# Altium footprint library GPS_LIB_PCB.PcbLib: 19 footprints (part 1 of 2)
Each footprint in its own frame and in the unit in brackets; x right, y up, seen from the top. Pads: shape width x height; smd on the part's side, far side on the other; paste and mask are expansions set on the pad; w line width, h text height; cw(c..) or ccw(c..) is an arc to the next point about the centre after c.
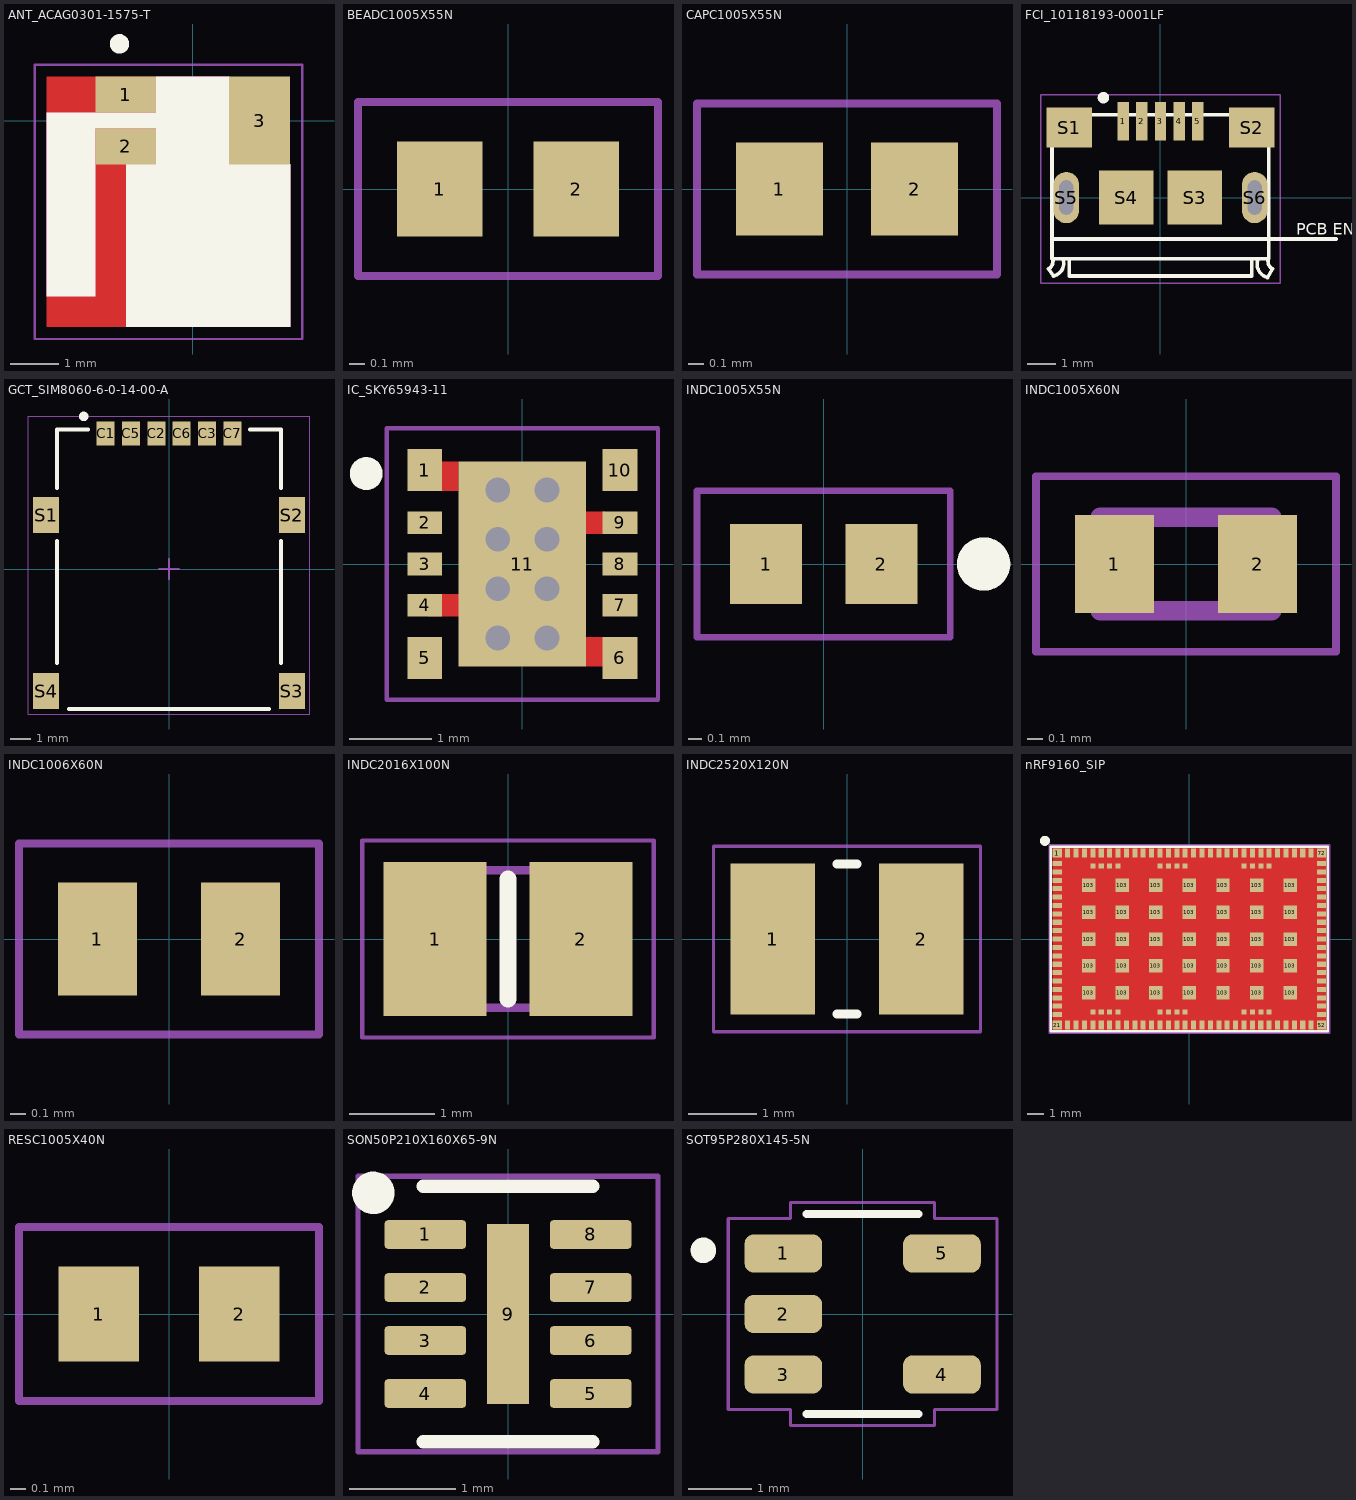
[diagram p0: the footprints below, top view; thin cyan lines are the x and y axes]

## ANT_ACAG0301-1575-T [mm]
pads (3):
  rect 1.25x0.74 smd: 1(-1.375,0.53) 2(-1.375,-0.53)
  rect 1.25x1.8 smd: 3(1.375,0)
Top Layer:
  region: -0.75,-0.9 -1.37,-0.9 -1.37,-4.24 -3,-4.24 -3,-3.61 -2,-3.61 -2,-0.16 -0.75,-0.16
  region: -0.75,0.16 -3,0.16 -3,0.9 -0.75,0.9
  pour cut-out: -3,-3.61 -2,-3.61 -2,-0.16 -0.75,-0.16 -0.75,-0.9 -1.37,-0.9 -1.37,-4.24 2,-4.24 2,-0.9 0.75,-0.9 0.75,0.9 -0.75,0.9 -0.75,0.16 -3,0.16
Bottom Layer:
  pour cut-out: -3,-3.61 -2,-3.61 -2,-0.16 -0.75,-0.16 -0.75,-0.9 -1.37,-0.9 -1.37,-4.24 2,-4.24 2,-0.9 0.75,-0.9 0.75,0.9 -0.75,0.9 -0.75,0.16 -3,0.16
Top Overlay:
  circle w0.2: c-1.505,1.575 r0.1
Top Overlay keep-out:
  region: 0.75,-0.9 2,-0.9 2,-4.24 -1.37,-4.24 -1.37,-0.9 -0.75,-0.9 -0.75,-0.16 -2,-0.16 -2,-3.61 -3,-3.61 -3,0.16 -0.75,0.16 -0.75,0.9 0.75,0.9
Mechanical 15:
  lines w0.05: -3.25,-4.49 2.25,-4.49 2.25,1.15 -3.25,1.15 -3.25,-4.49
3D body: height 0.6, standoff 0, extent -1.6,-0.8 1.6,0.8

## Battery 500maH [mm]
3D body: height 6.53, standoff 0, extent -17.6,-19.7 16.9,18.3

## BEADC1005X55N [mm]
pads (2):
  rect 0.54x0.6 smd: 1(-0.432,0) 2(0.432,0)
Mechanical 15:
  lines w0.05: -0.95,-0.55 0.95,-0.55 0.95,0.55 -0.95,0.55 -0.95,-0.55
3D body: height 0.55, standoff 0.05, extent -0.5,-0.28 0.5,0.27

## CAPC1005X55N [mm]
pads (2):
  rect 0.56x0.6 smd: 1(-0.435,0) 2(0.435,0)
Mechanical 15:
  lines w0.05: -0.965,-0.55 -0.965,0.55 0.965,0.55 0.965,-0.55 -0.965,-0.55
3D body: height 0.55, standoff 0.05, extent -0.5,-0.28 0.5,0.27

## FCI_10118193-0001LF [mm]
pads (11):
  rect 0.4x1.35 smd: 1(-1.3,2.675) 2(-0.65,2.675) 3(0,2.675) 4(0.65,2.675) 5(1.3,2.675)
  rect 1.6x1.4 smd: S1(-3.2,2.45) S2(3.2,2.45)
  rect 1.9x1.9 smd: S3(1.2,0) S4(-1.2,0)
  oval 0.9x1.8 hole 0.5 slot 1.2 at 90 deg: S5(-3.3,0) S6(3.3,0)
Top Overlay:
  circle w0.2: c-2,3.5 r0.1
  lines w0.127: -3.93,-2.5 -3.75,-2.75 ; -3.93,-2.5 ccw(c-4.065,-2.235) -3.8,-2.1 ; -3.8,-1.45 3.8,-1.45 ; -3.8,-1.4 -3.8,-1.1 ; -3.8,1.1 -3.8,1.5 ; -3.746,-2.749 ccw(c-3.85,-2.3) -3.401,-2.196 ; -3.2,-2.2 -3.2,-2.75 3.2,-2.75 3.2,-2.2 ; 3.401,-2.198 ccw(c3.875,-2.325) 3.748,-2.799 ; 3.75,-2.8 3.93,-2.5 ; 3.8,-2.1 ccw(c4.065,-2.235) 3.93,-2.5 ; 3.8,-1.4 3.8,-1.1 ; 3.8,1.1 3.8,1.5 ; 6.15,-1.45 3.8,-1.45 ; -3.8,-2.1 -3.8,-2.15 3.8,-2.15 3.8,-1.45 ; -3.8,-2.1 -3.8,2.9 3.8,2.9 3.8,-1.45
  text "PCB END" at 4.75,-1.3 h0.41
Mechanical 15:
  lines w0.05: -4.2,-3 -4.2,3.6 4.2,3.6 4.2,-3 -4.2,-3
3D body: height 3.18, standoff -0.43, extent -3.92,-2.703 3.937,2.957

## GCT_SIM8060-6-0-14-00-A [mm]
pads (10):
  rect 0.9x1.2 smd: C1(-3.175,6.8) C2(-0.635,6.8) C3(1.905,6.8) C5(-1.905,6.8) C6(0.635,6.8) C7(3.175,6.8)
  rect 1.3x1.8 smd: S1(-6.15,2.7) S2(6.15,2.7) S3(6.15,-6.1) S4(-6.15,-6.1)
Top Overlay:
  circle w0.24: c-4.267,7.645 r0.12
  lines w0.2: -5.6,-4.699 -5.6,1.397 ; -5.6,4.064 -5.6,7 -4.064,7 ; -5,-7 5,-7 ; 4.064,7 5.6,7 5.6,4.064 ; 5.6,-4.699 5.6,1.397
Mechanical 15:
  lines w0.05: -7.05,-7.25 7.05,-7.25 7.05,7.65 -7.05,7.65 -7.05,-7.25
  lines w0.1: -0.5,0 0.5,0 ; 0,-0.5 0,0.5
3D body: height 1.53, standoff 0.08, extent -6.2,-7 6.2,7

## IC_SKY65943-11 [mm]
pads (11):
  rect 0.425x0.515 smd mask+0: 1(-1.188,1.144) 5(-1.188,-1.144) 6(1.188,-1.144) 10(1.188,1.144)
  rect 0.425x0.275 smd mask+0: 2(-1.188,0.5) 3(-1.188,0) 4(-1.188,-0.5) 7(1.188,-0.5) 8(1.188,0) 9(1.188,0.5)
  rect 1.55x2.5 smd paste-2: 11(0,0)
via 0.3,0.3 diameter 0.61 hole 0.3
via -0.3,0.3 diameter 0.61 hole 0.3
via -0.3,0.9 diameter 0.61 hole 0.3
via 0.3,0.9 diameter 0.61 hole 0.3
via -0.3,-0.3 diameter 0.61 hole 0.3
via 0.3,-0.3 diameter 0.61 hole 0.3
via -0.3,-0.9 diameter 0.61 hole 0.3
via 0.3,-0.9 diameter 0.61 hole 0.3
Top Layer:
  rectangle: 0.7,0.362 1,0.638
  rectangle: -0.925,1.144 -0.775,1.25
  rectangle: -1.016,0.886 -0.775,1.144
  rectangle: -1.016,1.144 -0.925,1.25
  rectangle: 0.775,-1.25 1.188,-0.886
  rectangle: -1.143,-0.637 -0.762,-0.363
Top Overlay:
  circle w0.2: c-1.9,1.1 r0.1
Top Paste:
  region: 0.775,-1.25 -0.775,-1.25 -0.775,-0.505 0.775,-0.505
  region: 0.775,0.505 -0.775,0.505 -0.775,1.25 0.775,1.25
  region: 0.775,-0.335 -0.775,-0.335 -0.775,0.335 0.775,0.335
Top Solder:
  region: 1.45,-0.687 0.925,-0.687 0.925,-0.312 1.45,-0.312
  region: 1.45,0.312 0.925,0.312 0.925,0.687 1.45,0.687
  region: -0.925,-0.687 -1.45,-0.687 -1.45,-0.312 -0.925,-0.312
  region: -0.925,0.312 -1.45,0.312 -1.45,0.687 -0.925,0.687
  region: 1.45,-0.188 0.925,-0.188 0.925,0.188 1.45,0.188
  region: -0.925,-0.188 -1.45,-0.188 -1.45,0.188 -0.925,0.188
  region: 1.45,-1.451 0.925,-1.451 0.925,-0.836 1.45,-0.836
  region: 1.45,0.836 0.925,0.836 0.925,1.451 1.45,1.451
  region: -0.925,-1.451 -1.45,-1.451 -1.45,-0.836 -0.925,-0.836
  region: -0.925,0.836 -1.45,0.836 -1.45,1.451 -0.925,1.451
  region: 0.775,-1.25 -0.775,-1.25 -0.775,1.25 0.775,1.25
Mechanical 15:
  lines w0.05: -1.65,-1.651 -1.65,1.651 1.65,1.651 1.65,-1.651 -1.65,-1.651
3D body: height 0.7, standoff 0, extent -1.25,-1.25 1.25,1.25

## INDC1005X55N [mm]
pads (2):
  rect 0.54x0.6 smd: 1(-0.432,0) 2(0.432,0)
Top Overlay:
  circle w0.2: c1.2,0 r0.1
Mechanical 15:
  lines w0.05: -0.95,-0.55 -0.95,0.55 0.95,0.55 0.95,-0.55 -0.95,-0.55
3D body: height 0.65, standoff 0.1, extent -0.5,-0.25 0.5,0.25

## INDC1005X60N [mm]
pads (2):
  rect 0.51x0.63 smd: 1(-0.46,0) 2(0.46,0)
Mechanical 13:
  lines w0.127: -0.55,-0.3 0.55,-0.3 0.55,0.3 -0.55,0.3 -0.55,-0.3
Mechanical 15:
  lines w0.05: -0.965,-0.565 0.965,-0.565 0.965,0.565 -0.965,0.565 -0.965,-0.565
3D body: height 0.6, standoff 0, extent -0.5,-0.3 0.5,0.3

## INDC1006X60N [mm]
pads (2):
  rect 0.51x0.73 smd: 1(-0.46,0) 2(0.46,0)
Mechanical 15:
  lines w0.05: -0.965,-0.615 -0.965,0.615 0.965,0.615 0.965,-0.615 -0.965,-0.615
3D body: height 0.6, standoff 0, extent -0.5,-0.3 0.5,0.3

## INDC2016X100N [mm]
pads (2):
  rect 1.2x1.8 smd: 1(-0.85,0) 2(0.85,0)
Top Overlay:
  lines w0.2: 0,-0.7 0,0.7
Mechanical 13:
  lines w0.1: -1,-0.8 1,-0.8 1,0.8 -1,0.8 -1,-0.8
Mechanical 15:
  lines w0.05: -1.7,-1.15 1.7,-1.15 1.7,1.15 -1.7,1.15 -1.7,-1.15
3D body: height 1, standoff 0, extent -1,-0.8 1,0.8

## INDC2520X120N [mm]
pads (2):
  rect 1.24x2.22 smd: 1(-1.09,0) 2(1.09,0)
Top Overlay:
  lines w0.127: -0.15,-1.1 0.15,-1.1 ; -0.15,1.1 0.15,1.1
Mechanical 15:
  lines w0.05: -1.958,-1.358 1.958,-1.358 1.958,1.358 -1.958,1.358 -1.958,-1.358
3D body: height 1.2, standoff 0, extent -1.25,-1 1.25,1

## nRF9160_SIP [mm]
height 1
pads (161):
  rect 0.54x0.54 smd mask+0.05: 1(-7.87,5.12) 21(-7.87,-5.12) 52(7.87,-5.12) 72(7.87,5.12)
  rect 0.54x0.3 smd mask+0.05: 2(-7.87,4.5) 3(-7.87,4) 4(-7.87,3.5) 5(-7.87,3) 6(-7.87,2.5) 7(-7.87,2) 8(-7.87,1.5) 9(-7.87,1) 10(-7.87,0.5) 11(-7.87,0) 12(-7.87,-0.5) 13(-7.87,-1) 14(-7.87,-1.5) 15(-7.87,-2) 16(-7.87,-2.5) 17(-7.87,-3) 18(-7.87,-3.5) 19(-7.87,-4) 20(-7.87,-4.5) 53(7.87,-4.5) 54(7.87,-4) 55(7.87,-3.5) 56(7.87,-3) 57(7.87,-2.5) 58(7.87,-2) 59(7.87,-1.5) 60(7.87,-1) 61(7.87,-0.5) 62(7.87,0) 63(7.87,0.5) 64(7.87,1) 65(7.87,1.5) 66(7.87,2) 67(7.87,2.5) 68(7.87,3) 69(7.87,3.5) 70(7.87,4) 71(7.87,4.5)
  rect 0.3x0.54 smd mask+0.05: 22(-7.25,-5.12) 23(-6.75,-5.12) 24(-6.25,-5.12) 25(-5.75,-5.12) 26(-5.25,-5.12) 27(-4.75,-5.12) 28(-4.25,-5.12) 29(-3.75,-5.12) 30(-3.25,-5.12) 31(-2.75,-5.12) 32(-2.25,-5.12) 33(-1.75,-5.12) 34(-1.25,-5.12) 35(-0.75,-5.12) 36(-0.25,-5.12) 37(0.25,-5.12) 38(0.75,-5.12) 39(1.25,-5.12) 40(1.75,-5.12) 41(2.25,-5.12) 42(2.75,-5.12) 43(3.25,-5.12) 44(3.75,-5.12) 45(4.25,-5.12) 46(4.75,-5.12) 47(5.25,-5.12) 48(5.75,-5.12) 49(6.25,-5.12) 50(6.75,-5.12) 51(7.25,-5.12) 73(7.25,5.12) 74(6.75,5.12) 75(6.25,5.12) 76(5.75,5.12) 77(5.25,5.12) 78(4.75,5.12) 79(4.25,5.12) 80(3.75,5.12) 81(3.25,5.12) 82(2.75,5.12) 83(2.25,5.12) 84(1.75,5.12) 85(1.25,5.12) 86(0.75,5.12) 87(0.25,5.12) 88(-0.25,5.12) 89(-0.75,5.12) 90(-1.25,5.12) 91(-1.75,5.12) 92(-2.25,5.12) 93(-2.75,5.12) 94(-3.25,5.12) 95(-3.75,5.12) 96(-4.25,5.12) 97(-4.75,5.12) 98(-5.25,5.12) 99(-5.75,5.12) 100(-6.25,5.12) 101(-6.75,5.12) 102(-7.25,5.12)
  rect 0.8x0.8 smd mask+0.05: 103(-6,-3.2) 103(-6,-1.6) 103(-6,0) 103(-6,1.6) 103(-6,3.2) 103(-4,-3.2) 103(-4,-1.6) 103(-4,0) 103(-4,1.6) 103(-4,3.2) 103(-2,-3.2) 103(-2,-1.6) 103(-2,0) 103(-2,1.6) 103(-2,3.2) 103(0,-3.2) 103(0,-1.6) 103(0,0) 103(0,1.6) 103(0,3.2) 103(2,-3.2) 103(2,-1.6) 103(2,0) 103(2,1.6) 103(2,3.2) 103(4,-3.2) 103(4,-1.6) 103(4,0) 103(4,1.6) 103(4,3.2) 103(6,-3.2) 103(6,-1.6) 103(6,0) 103(6,1.6) 103(6,3.2)
  rect 0.3x0.3 smd mask+0.05: 104(-5.75,-4.35) 105(-5.25,-4.35) 106(-4.75,-4.35) 107(-4.25,-4.35) 108(-1.75,-4.35) 109(-1.25,-4.35) 110(-0.75,-4.35) 111(-0.25,-4.35) 112(3.25,-4.35) 113(3.75,-4.35) 114(4.25,-4.35) 115(4.75,-4.35) 116(4.75,4.35) 117(4.25,4.35) 118(3.75,4.35) 119(3.25,4.35) 120(-0.25,4.35) 121(-0.75,4.35) 122(-1.25,4.35) 123(-1.75,4.35) 124(-4.25,4.35) 125(-4.75,4.35) 126(-5.25,4.35) 127(-5.75,4.35)
Top Layer:
  region: 5.75,2.85 5.75,3.556 -5.715,3.556 -5.715,2.85
  region: 5.75,1.25 5.75,1.956 -5.715,1.956 -5.715,1.25
  region: 5.75,-0.35 5.75,0.356 -5.715,0.356 -5.715,-0.35
  region: 5.75,-1.95 5.75,-1.244 -5.715,-1.244 -5.715,-1.95
  region: 5.75,-3.55 5.75,-2.844 -5.715,-2.844 -5.715,-3.55
  region: -5.65,3.2 -6.356,3.2 -6.356,-3.315 -5.65,-3.315
  region: -3.65,3.2 -4.356,3.2 -4.356,-3.315 -3.65,-3.315
  region: -1.65,3.2 -2.356,3.2 -2.356,-3.315 -1.65,-3.315
  region: 0.35,3.2 -0.356,3.2 -0.356,-3.315 0.35,-3.315
  region: 2.35,3.2 1.644,3.2 1.644,-3.315 2.35,-3.315
  region: 4.35,3.2 3.644,3.2 3.644,-3.315 4.35,-3.315
  region: 6.35,3.2 5.644,3.2 5.644,-3.315 6.35,-3.315
  pour cut-out: -8.15,5.4 8.15,5.4 8.15,-5.4 -8.15,-5.4
Top Overlay:
  circle w0.3: c-8.605,5.85 r0.15
  lines w0.15: -8.25,-5.5 8.25,-5.5 8.25,5.5 -8.25,5.5 -8.25,-5.5
Mechanical 7:
  circle w0.3: c-6.5,3.75 r0.15
  lines w0.1: -8.05,-5.3 8.05,-5.3 8.05,5.3 -8.05,5.3 -8.05,-5.3
Mechanical 15:
  circle w0.3: c-6.5,3.75 r0.15
  lines w0.1: -8.35,-5.6 -8.35,5.6 8.35,5.6 8.35,-5.6 -8.35,-5.6
3D body: height 1.2, standoff 0, extent -8.05,-5.3 8.05,5.3

## RESC1005X40N [mm]
pads (2):
  rect 0.51x0.6 smd: 1(-0.445,0) 2(0.445,0)
Mechanical 15:
  lines w0.05: -0.95,-0.55 -0.95,0.55 0.95,0.55 0.95,-0.55 -0.95,-0.55
3D body: height 0.4, standoff 0, extent -0.5,-0.25 0.5,0.25

## SON50P210X160X65-9N [mm]
pads (9):
  rrect25% 0.77x0.27 smd: 1(-0.78,0.75) 2(-0.78,0.25) 3(-0.78,-0.25) 4(-0.78,-0.75) 5(0.78,-0.75) 6(0.78,-0.25) 7(0.78,0.25) 8(0.78,0.75)
  rect 0.4x1.7 smd paste-2: 9(0,0)
Top Overlay:
  circle w0.2: c-1.27,1.143 r0.1
  lines w0.127: -0.8,-1.205 0.8,-1.205 ; -0.8,1.205 0.8,1.205
Top Paste:
  region: 0.13,-0.54 -0.13,-0.54 -0.13,0.54 0.13,0.54
Mechanical 15:
  lines w0.05: -1.415,-1.3 -1.415,1.3 1.415,1.3 1.415,-1.3 -1.415,-1.3
3D body: height 0.73, standoff 0.08, extent -0.8,-1.05 0.8,1.05

## SOT95P280X145-5N [mm]
pads (5):
  rrect50% 1.22x0.6 smd: 1(-1.245,0.95) 2(-1.245,0) 3(-1.245,-0.95) 4(1.245,-0.95) 5(1.245,0.95)
Top Overlay:
  circle w0.2: c-2.5,1 r0.1
  lines w0.127: -0.88,-1.57 0.88,-1.57 ; -0.88,1.57 0.88,1.57
Mechanical 15:
  lines w0.05: -2.11,-1.5 -2.11,1.5 -1.13,1.5 -1.13,1.75 1.13,1.75 1.13,1.5 2.11,1.5 2.11,-1.5 1.13,-1.5 1.13,-1.75 -1.13,-1.75 -1.13,-1.5 -2.11,-1.5
3D body: height 1.45, standoff 0, extent -1.35,-1.45 1.35,1.45